# Altium schematic symbol library First Tutorial- Andrew.SchLib: 1 symbol
Pins are listed as number, name and electrical type; pins without a type are passive.

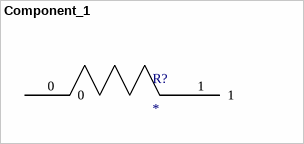
[diagram p0: symbol Component_1]

## Component_1
designator R?  Supplier Part Number 1: 696-1201-2-ND
Supplier 1: Digi-Key
footprint PCBComponent_1
pins: 0, 1